# Altium schematic symbol library main.SchLib: 9 symbols
Pins are listed as number, name and electrical type; pins without a type are passive.

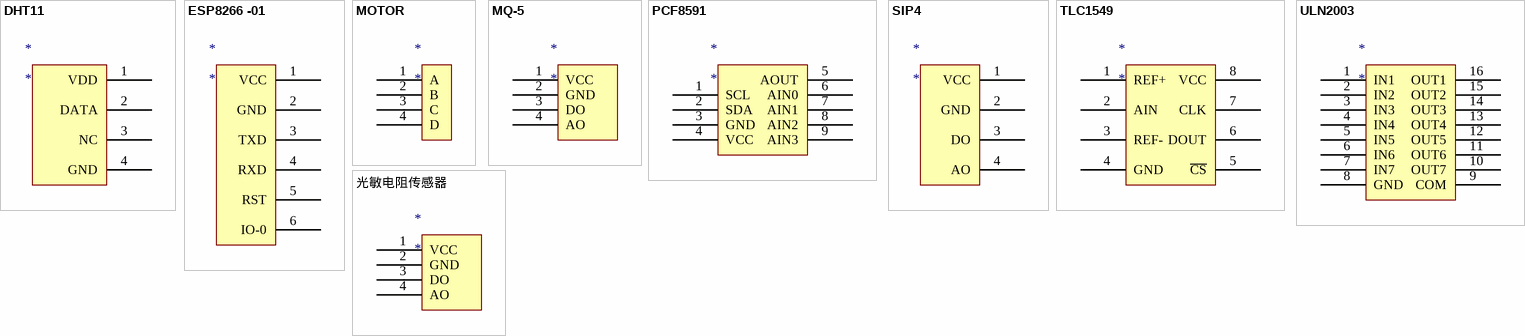
[diagram p0: symbols DHT11 to 光敏电阻传感器]

## DHT11
designator *
pins: 1 VDD, 2 DATA, 3 NC, 4 GND

## ESP8266 -01
designator *
pins: 1 VCC, 2 GND, 3 TXD, 4 RXD, 5 RST, 6 IO-0

## MOTOR
designator *
pins: 1 A, 2 B, 3 C, 4 D

## MQ-5
designator *
pins: 1 VCC, 2 GND, 3 DO, 4 AO

## PCF8591
designator *
pins: 1 SCL, 2 SDA, 3 GND, 4 VCC, 5 AOUT, 6 AIN0, 7 AIN1, 8 AIN2, 9 AIN3

## SIP4
designator *
pins: 1 VCC, 2 GND, 3 DO, 4 AO

## TLC1549
designator *
pins: 1 REF+, 2 AIN, 3 REF-, 4 GND, 5 ~{CS}, 6 DOUT, 7 CLK, 8 VCC

## ULN2003
designator *
pins: 1 IN1, 2 IN2, 3 IN3, 4 IN4, 5 IN5, 6 IN6, 7 IN7, 8 GND, 9 COM, 10 OUT7, 11 OUT6, 12 OUT5, 13 OUT4, 14 OUT3, 15 OUT2, 16 OUT1

## 光敏电阻传感器
designator *
pins: 1 VCC, 2 GND, 3 DO, 4 AO